# EAGLE library part IV-27_LEFT (library Russian-VFD-tubes)
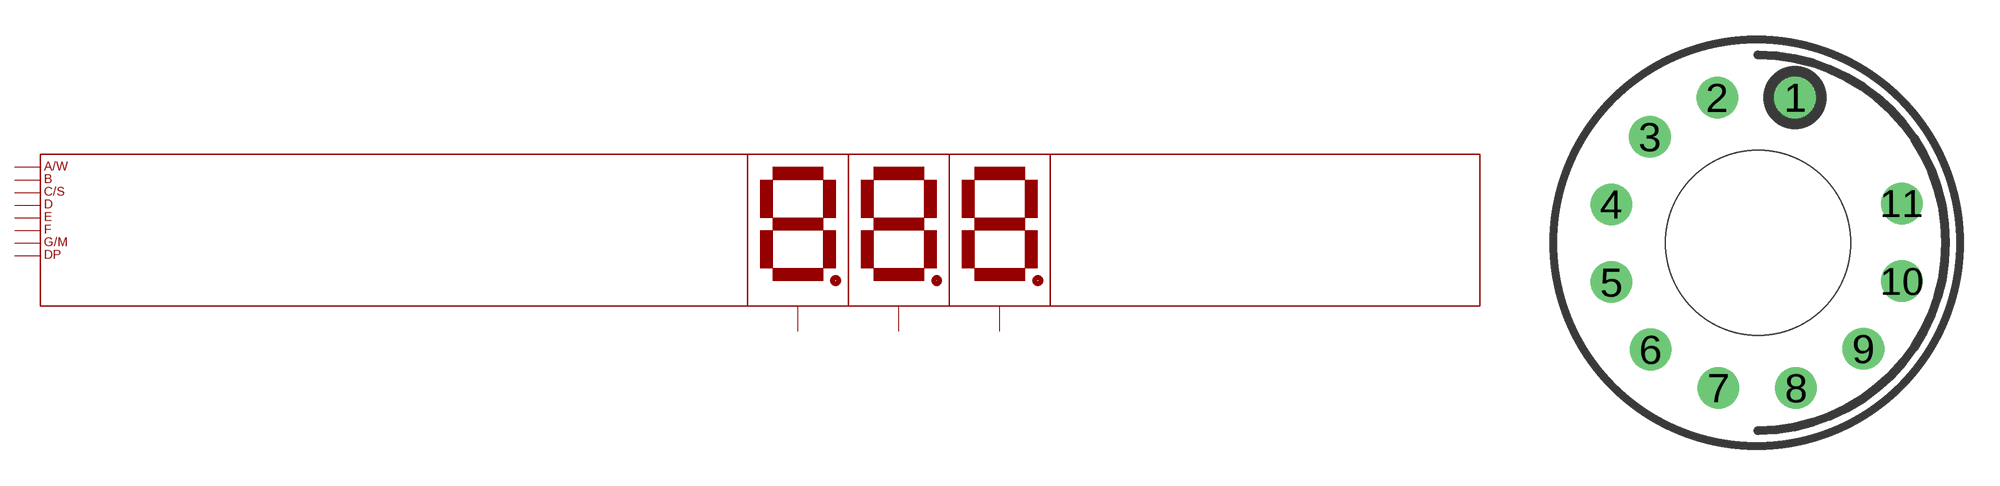
[diagram p10: symbol with the pads of IV-27_LEFT; footprint IV-27_LEFT]

Designator prefix -

## IV-27_LEFT  [IV-27_LEFT]
1  A/W
2  F
3  B
4  G/M
5  E
6  C/S
7  D
8  DP
9  GRID_6
10  GRID_5
11  GRID_7

## Footprint IV-27_LEFT (pad centres in mm)
Eagle SCR autogenerated 12 pin Nixie socket
drill 1.05: 1 1.408,5.503; 2 -1.54,5.493; 3 -4.087,4.01; 4 -5.552,1.452; 5 -5.542,-1.495; 6 -4.059,-4.042; 7 -1.501,-5.507; 8 1.446,-5.497; 9 3.994,-4.014; 10 5.458,-1.457; 11 5.448,1.491
hole 7 at 0,0